# Altium schematic symbol library Dart_Controller_Schlib.SchLib: 41 symbols
Pins are listed as number, name and electrical type; pins without a type are passive.

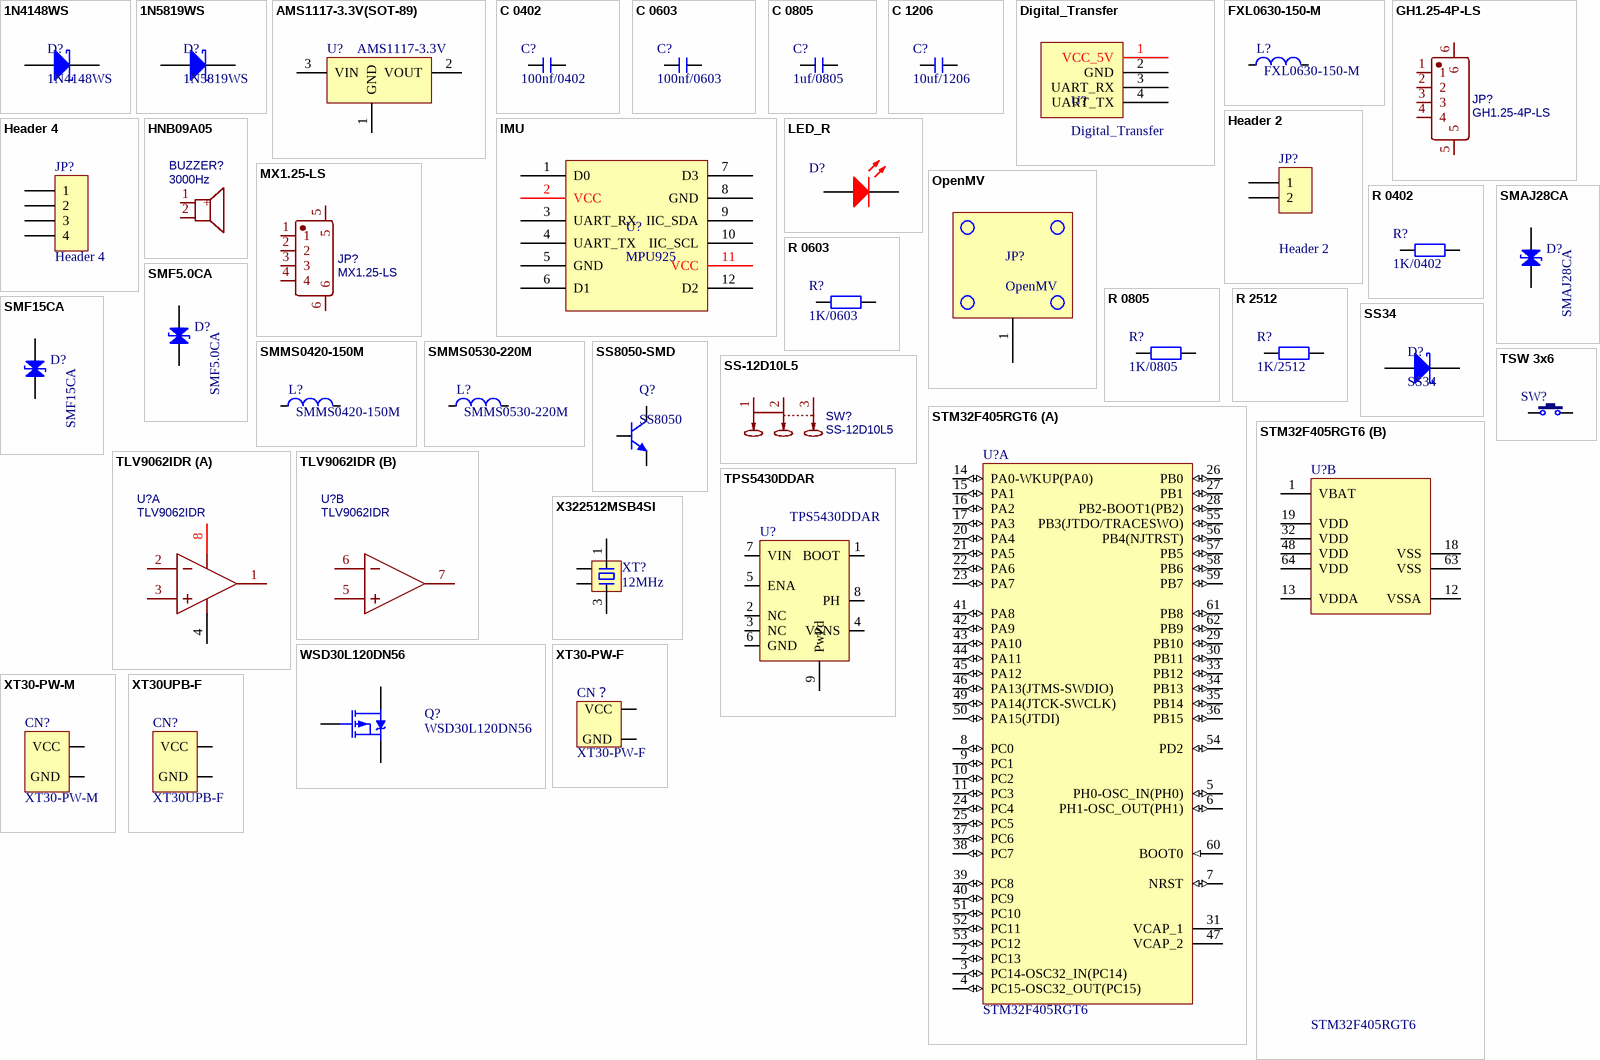
[diagram p0: symbols 1N4148WS to XT30UPB-F]

## 1N4148WS
designator D?
开关二极管; BOM名称: 肖特基二极管; 学习资源: https://shop463601444.taobao.com
footprint SOD-323_L1.8-W1.3-LS2.5-RD
pins: 1 A, 2 K

## 1N5819WS
designator D?
肖特基二极管; BOM名称: 肖特基二极管; 学习资源: https://shop463601444.taobao.com
footprint SOD-323_L1.8-W1.3-LS2.5-RD
pins: 1 A, 2 K

## AMS1117-3.3V(SOT-89)
designator U?, comment AMS1117-3.3V
LDO; BOM名称: 稳压芯片; 淘宝ID: 封装库来自淘宝 ID：黄晶宝石; 欢迎光临淘宝店铺: https://shop463601444.taobao.com
footprint SOT-89 (封装库来自淘宝卖家 ID：黄晶宝石)
pins: 1 GND, 2 VOUT, 3 VIN

## C 0402
designator C?, comment 100nf/0402
贴片电容; BOM名称: 无极性贴片电容; 淘宝ID: 封装库来自淘宝 ID：黄晶宝石; 联系售后: https://shop463601444.taobao.com
footprint C 0402_M (无极性贴片电容                                  淘宝ID:黄晶宝石)
pins: 1, 2

## C 0603
designator C?, comment 100nf/0603
贴片电容; BOM名称: 无极性贴片电容; 淘宝ID: 封装库来自淘宝 ID：黄晶宝石; 联系售后: https://shop463601444.taobao.com
footprint C 0603_M (无极性贴片电容                                淘宝ID:黄晶宝石)
pins: 1, 2

## C 0805
designator C?, comment 1uf/0805
贴片电容; BOM名称: 无极性贴片电容; 淘宝ID: 封装库来自淘宝 ID：黄晶宝石; 联系售后: https://shop463601444.taobao.com
footprint C 0805_M (无极性贴片电容                                         淘宝ID:黄晶宝石)
pins: 1, 2

## C 1206
designator C?, comment 10uf/1206
贴片电容; BOM名称: 无极性贴片电容; 淘宝ID: 封装库来自淘宝 ID：黄晶宝石; 联系售后: https://shop463601444.taobao.com
footprint C 1206_M (无极性贴片电容)
pins: 1, 2

## Digital_Transfer
designator U?
数传
footprint Digital_Transfer
pins: 1 VCC_5V, 2 GND, 3 UART_RX, 4 UART_TX

## FXL0630-150-M
designator L?
功率电感
footprint L-SMD-0630 (一体化成型电感)
pins: 1, 2

## GH1.25-4P-LS
designator JP?
Manufacturer: XUNPU(讯普); Manufacturer Part: WAFER-GH1.25-4PLB; Contributor: lcsc; Supplier: LCSC; Supplier Part: C3029370; JLCPCB Part Class: Extended Part; spicePre: U; spiceSymbolName: WAFER-GH1.25-4PLB
footprint GH1.25-LS-4P (A1257WR-S-4P)
pins: 1, 2, 3, 4, 5, 6

## Header 2
designator JP?
Header, 2-Pin; LatestRevisionDate: 17-Jul-2002; LatestRevisionNote: Re-released for DXP Platform.; Publisher: Altium Limited
footprint HDR2.54-LI-2P (封装库来自淘宝卖家 ID：黄晶宝石)
pins: 1, 2

## Header 4
designator JP?
Header, 4-Pin; LatestRevisionDate: 17-Jul-2002; LatestRevisionNote: Re-released for DXP Platform.; Publisher: Altium Limited
footprint HDR2.54-LI-4P (排针，4脚)
pins: 1, 2, 3, 4

## HNB09A05
designator BUZZER?, comment 3000Hz
蜂鸣器; Manufacturer: 华能; Manufacturer Part: HNB09A05; nameAlias: Value; Supplier: LCSC; Supplier Part: C96493; JLCPCB Part Class: Extended Part; spicePre: B; spiceSymbolName: HNB09A05
footprint BUZ-TH_BD9.6-P5.00-D0.7-FD
pins: 1 +, 2

## IMU
designator U?, comment MPU925
footprint JY901B_MPU9250
pins: 1 D0, 2 VCC, 3 UART_RX, 4 UART_TX, 5 GND, 6 D1, 7 D3, 8 GND, 9 IIC_SDA, 10 IIC_SCL, 11 VCC, 12 D2

## LED_R
designator D?, comment LED  (value not drawn)
发光二极管; Published: 8-Jun-2000; LatestRevisionDate: 08-Jul-2005; LatestRevisionNote: Mech Layer 1 removed.; PackageReference: LED-0; Publisher: Altium Limited
footprint LED0603-RD_RED
pins: 1 K, 2 A

## MX1.25-LS
designator JP?
Manufacturer: HCTL(华灿天禄); Manufacturer Part: HC-1.25-4PLT; Contributor: LCSC; Supplier: LCSC; Supplier Part: C2845390; JLCPCB Part Class: Extended Part; spicePre: C; spiceSymbolName: HC-1.25-4PLT
footprint MX 1.25-LS-4P (长：9.75m，宽：3.7mm，高：4.7mm)
pins: 1, 2, 3, 4, 5, 6

## OpenMV
designator JP?
OpenMV定位孔
footprint OpenMV_Hole
pins: 1

## R 0402
designator R?, comment 1K/0402
贴片电阻; 版权归属: 来自淘宝 ID：黄晶宝石; BOM名称: 贴片电阻; 联系售后: https://shop463601444.taobao.com
footprint R 0402_M (1/16W贴片电阻       淘宝ID:黄晶宝石)
pins: 1, 2

## R 0603
designator R?, comment 1K/0603
贴片电阻; 版权归属: 来自淘宝 ID：黄晶宝石; BOM名称: 贴片电阻; 联系售后: https://shop463601444.taobao.com
footprint R 0603_M (1/10W贴片电阻)
pins: 1, 2

## R 0805
designator R?, comment 1K/0805
贴片电阻; 版权归属: 来自淘宝 ID：黄晶宝石; BOM名称: 贴片电阻; 联系售后: https://shop463601444.taobao.com
footprint R 0805_M (1/8W贴片电阻)
pins: 1, 2

## R 2512
designator R?, comment 1K/2512
贴片电阻; 版权归属: 来自淘宝 ID：黄晶宝石; BOM名称: 贴片电阻; 联系售后: https://shop463601444.taobao.com
footprint R 2512_M (1W贴片电阻  淘宝ID:黄晶宝石)
pins: 1, 2

## SMAJ28CA
designator D?
双向瞬态电压抑制二极管
footprint SMA (4.5x2.6*2.2mm（长宽高，不包括引脚）)
pins: 1, 2

## SMF5.0CA
designator D?
双向瞬态电压抑制二极管
footprint SOD-123FL_L2.8-W1.8-LS3.7-BI
pins: 1, 2

## SMF15CA
designator D?
双向瞬态电压抑制二极管
footprint SOD-123FL_L2.8-W1.8-LS3.7-BI
pins: 1, 2

## SMMS0420-150M
designator L?
功率电感
footprint IND-SMD_L4.6-W4.2_SMMS0420
pins: 1, 2

## SMMS0530-220M
designator L?
功率电感
footprint IND-SMD_L5.5-W5.2
pins: 1, 2

## SS34
designator D?
肖特基二极管; BOM名称: 肖特基二极管; 学习资源: https://shop463601444.taobao.com
footprint SMA (4.5x2.6*2.2mm（长宽高，不包括引脚）)
pins: 1 A, 2 K

## SS8050-SMD
designator Q?, comment SS8050
高频放大-NPN型; 版权归属: 封装库来自淘宝 ID：黄晶宝石; 属性: 40V 1.5A 1W 100MHZ; BOM名称: 高频放大-NPN型; 联系售后: https://shop463601444.taobao.com
footprint SOT23-3L (3x1.3x1mm(长宽高))
pins: 1 B, 2 E, 3 C

## SS-12D10L5
designator SW?
滑动开关; Manufacturer: XKB Connectivity(中国星坤); Contributor: LCSC; Supplier: LCSC; Supplier Part: C319012; Manufacturer Part: SS-12D10L5; spicePre: S; spiceSymbolName: SS-12D10L5
footprint SW-TH_SS-12D10L5
pins: 1, 2, 3

## STM32F405RGT6
designator U?
ARM Cortex-M4 32-bit MCU+FPU, 210 DMIPS, 1024 kB Flash, 192 kB Internal RAM, 51 I/Os, 64-pin LQFP, -40 to 85 degC, Tray; Manufacturer: STMicroelectronics; D/A Converter: 2x12-bit; FLASH Size (Prog) (kB): 1024; I/Os (High Current): 51; Internal RAM Size (kB): 192; Operating Frequency(F) (Processor speed) (MHz): 168; Supply Voltage(Vcc) max (V): 3.6; Supply Voltage(Vcc) min (V): 1.8; DatasheetVersion: Rev. 4; PackageVersion: Rev. 4, 06/2013; PackageReference: LQFP64; PackageDescription: 64-Pin Low Profile Quad Flat Package, 10 x 10 mm Body, 0.5 mm Pitch; Supplier 1: Digi-Key; Supplier Part Number 1: 497-11767-ND; Supplier 2: Farnell; Supplier Part Number 2: 2064363; Supplier 3: Newark; Supplier Part Number 3: 73T2329; Supplier 4: Mouser; Supplier Part Number 4: 511-STM32F405RGT6; Core: ARM Cortex-M4; Packing: Tray; Mounting Technology: Surface Mount; PartNumber: STM32F405RGT6; ComponentLink1Description: Manufacturer URL; ComponentLink1URL: http://www.st.com/web/en/home.html; ComponentLink2Description: Datasheet; ComponentLink2URL: http://www.st.com/st-web-ui/static/active/en/resource/technical/document/datasheet/DM00037051.pdf; ComponentLink3Description: Package Specification; ComponentLink3URL: http://www.st.com/st-web-ui/static/active/en/resource/technical/document/datasheet/DM00037051.pdf
footprint LQFP64 10x10_N (64脚，体宽10x10mm，脚距0.5mm)
part A pins: 2 PC13 (io) "PC13/EVENTOUT/RTC_OUT,RTC_TAMP1,RTC_TS", 3 PC14-OSC32_IN(PC14) (io) "PC14-OSC32_IN(PC14)/EVENTOUT/OSC32_IN", 4 PC15-OSC32_OUT(PC15) (io) "PC15-OSC32_OUT(PC15)/EVENTOUT/OSC32_OUT", 5 PH0-OSC_IN(PH0) (io) "PH0-OSC_IN(PH0)/EVENTOUT/OSC_IN", 6 PH1-OSC_OUT(PH1) (io) "PH1-OSC_OUT(PH1)/EVENTOUT/OSC_OUT", 7 NRST (io), 8 PC0 (io) "PC0/OTG_HS_ULPI_STP/EVENTOUT/ADC123_IN10", 9 PC1 (io) "PC1/ETH_MDC/EVENTOUT/ADC123_IN11", 10 PC2 (io) "PC2/SPI2_MISO/OTG_HS_ULPI_DIR/ETH_MII_TXD2/I2S2ext_SD/EVENTOUT/ADC123_IN12", 11 PC3 (io) "PC3/SPI2_MOSI/I2S2_SD/OTG_HS_ULPI_NXT/ETH_MII_TX_CLK/EVENTOUT/ADC123_IN13", 14 PA0-WKUP(PA0) (io) "PA0-WKUP(PA0)/USART2_CTS/UART4_TX/ETH_MII_CRS/TIM2_CH1_ETR/TIM5_CH1/TIM8_ETR/EVENTOUT/ADC123_IN0/WKUP", 15 PA1 (io) "PA1/USART2_RTS/UART4_RX/ETH_RMII_REF_CLK/ETH_MII_RX_CLK/TIM5_CH2/TIM2_CH2/EVENTOUT/ADC123_IN1", 16 PA2 (io) "PA2/USART2_TX/TIM5_CH3/TIM9_CH1/TIM2_CH3/ETH_MDIO/EVENTOUT/ADC123_IN2", 17 PA3 (io) "PA3/USART2_RX/TIM5_CH4/TIM9_CH2/TIM2_CH4/OTG_HS_ULPI_D0/ETH_MII_COL/EVENTOUT/ADC123_IN3", 20 PA4 (io) "PA4/SPI1_NSS/SPI3_NSS/USART2_CK/DCMI_HSYNC/OTG_HS_SOF/I2S3_WS/EVENTOUT/ADC12_IN4/DAC_OUT1", 21 PA5 (io) "PA5/SPI1_SCK/OTG_HS_ULPI_CK/TIM2_CH1_ETR/TIM8_CH1N/EVENTOUT/ADC12_IN5/DAC_OUT2", 22 PA6 (io) "PA6/SPI1_MISO/TIM8_BKIN/TIM13_CH1/DCMI_PIXCLK/TIM3_CH1/TIM1_BKIN/EVENTOUT/ADC12_IN6", 23 PA7 (io) "PA7/SPI1_MOSI/TIM8_CH1N/TIM14_CH1/TIM3_CH2/ETH_MII_RX_DV/TIM1_CH1N/ETH_RMII_CRS_DV/EVENTOUT/ADC12_IN7", 24 PC4 (io) "PC4/ETH_RMII_RX_D0/ETH_MII_RX_D0/EVENTOUT/ADC12_IN14", 25 PC5 (io) "PC5/ETH_RMII_RX_D1/ETH_MII_RX_D1/EVENTOUT/ADC12_IN15", 26 PB0 (io) "PB0/TIM3_CH3/TIM8_CH2N/OTG_HS_ULPI_D1/ETH_MII_RXD2/TIM1_CH2N/EVENTOUT/ADC12_IN8", 27 PB1 (io) "PB1/TIM3_CH4/TIM8_CH3N/OTG_HS_ULPI_D2/ETH_MII_RXD3/TIM1_CH3N/EVENTOUT/ADC12_IN9", 28 PB2-BOOT1(PB2) (io) "PB2-BOOT1(PB2)/EVENTOUT", 29 PB10 (io) "PB10/SPI2_SCK/I2S2_CK/I2C2_SCL/USART3_TX/OTG_HS_ULPI_D3/ETH_MII_RX_ER/TIM2_CH3/EVENTOUT", 30 PB11 (io) "PB11/I2C2_SDA/USART3_RX/OTG_HS_ULPI_D4/ETH_RMII_TX_EN/ETH_MII_TX_EN/TIM2_CH4/EVENTOUT", 31 VCAP_1 (power), 33 PB12 (io) "PB12/SPI2_NSS/I2S2_WS/I2C2_SMBA/USART3_CK/TIM1_BKIN/CAN2_RX/OTG_HS_ULPI_D5/ETH_RMII_TXD0/ETH_MII_TXD0/OTG_HS_ID/EVENTOUT", 34 PB13 (io) "PB13/SPI2_SCK/I2S2_CK/USART3_CTS/TIM1_CH1N/CAN2_TX/OTG_HS_ULPI_D6/ETH_RMII_TXD1/ETH_MII_TXD1/EVENTOUT/OTG_HS_VBUS", 35 PB14 (io) "PB14/SPI2_MISO/TIM1_CH2N/TIM12_CH1/OTG_HS_DM/USART3_RTS/TIM8_CH2N/I2S2ext_SD/EVENTOUT", 36 PB15 (io) "PB15/SPI2_MOSI/I2S2_SD/TIM1_CH3N/TIM8_CH3N/TIM12_CH2/OTG_HS_DP/EVENTOUT/RTC_REFIN", 37 PC6 (io) "PC6/I2S2_MCK/TIM8_CH1/SDIO_D6/USART6_TX/DCMI_D0/TIM3_CH1/EVENTOUT", 38 PC7 (io) "PC7/I2S3_MCK/TIM8_CH2/SDIO_D7/USART6_RX/DCMI_D1/TIM3_CH2/EVENTOUT", 39 PC8 (io) "PC8/TIM8_CH3/SDIO_D0/TIM3_CH3/USART6_CK/DCMI_D2/EVENTOUT", 40 PC9 (io) "PC9/I2S_CKIN/MCO2/TIM8_CH4/SDIO_D1/I2C3_SDA/DCMI_D3/TIM3_CH4/EVENTOUT", 41 PA8 (io) "PA8/MCO1/USART1_CK/TIM1_CH1/I2C3_SCL/OTG_FS_SOF/EVENTOUT", 42 PA9 (io) "PA9/USART1_TX/TIM1_CH2/I2C3_SMBA/DCMI_D0/EVENTOUT/OTG_FS_VBUS", 43 PA10 (io) "PA10/USART1_RX/TIM1_CH3/OTG_FS_ID/DCMI_D1/EVENTOUT", 44 PA11 (io) "PA11/USART1_CTS/CAN1_RX/TIM1_CH4/OTG_FS_DM/EVENTOUT", 45 PA12 (io) "PA12/USART1_RTS/CAN1_TX/TIM1_ETR/OTG_FS_DP/EVENTOUT", 46 PA13(JTMS-SWDIO) (io) "PA13(JTMS-SWDIO)/JTMS-SWDIO/EVENTOUT", 47 VCAP_2 (power), 49 PA14(JTCK-SWCLK) (io) "PA14(JTCK-SWCLK)/JTCK-SWCLK/EVENTOUT", 50 PA15(JTDI) (io) "PA15(JTDI)/JTDI/SPI3_NSS/I2S3_WS/TIM2_CH1_ETR/SPI1_NSS/EVENTOUT", 51 PC10 (io) "PC10/SPI3_SCK/I2S3_CK/UART4_TX/SDIO_D2/DCMI_D8/USART3_TX/EVENTOUT", 52 PC11 (io) "PC11/UART4_RX/SPI3_MISO/SDIO_D3/DCMI_D4/USART3_RX/I2S3ext_SD/EVENTOUT", 53 PC12 (io) "PC12/UART5_TX/SDIO_CK/DCMI_D9/SPI3_MOSI/I2S3_SD/USART3_CK/EVENTOUT", 54 PD2 (io) "PD2/TIM3_ETR/UART5_RX/SDIO_CMD/DCMI_D11/EVENTOUT", 55 PB3(JTDO/TRACESWO) (io) "PB3(JTDO/TRACESWO)/JTDO/TRACESWO/SPI3_SCK/I2S3_CK/TIM2_CH2/SPI1_SCK/EVENTOUT", 56 PB4(NJTRST) (io) "PB4(NJTRST)/NJTRST/SPI3_MISO/TIM3_CH1/SPI1_MISO/I2S3ext_SD/EVENTOUT", 57 PB5 (io) "PB5/I2C1_SMBA/CAN2_RX/OTG_HS_ULPI_D7/ETH_PPS_OUT/TIM3_CH2/SPI1_MOSI/SPI3_MOSI/DCMI_D10/I2S3_SD/EVENTOUT", 58 PB6 (io) "PB6/I2C1_SCL/TIM4_CH1/CAN2_TX/DCMI_D5/USART1_TX/EVENTOUT", 59 PB7 (io) "PB7/I2C1_SDA/FSMC_NL/DCMI_VSYNC/USART1_RX/TIM4_CH2/EVENTOUT", 60 BOOT0 (in) "BOOT0/VPP", 61 PB8 (io) "PB8/TIM4_CH3/SDIO_D4/TIM10_CH1/DCMI_D6/ETH_MII_TXD3/I2C1_SCL/CAN1_RX/EVENTOUT", 62 PB9 (io) "PB9/SPI2_NSS/I2S2_WS/TIM4_CH4/TIM11_CH1/SDIO_D5/DCMI_D7/I2C1_SDA/CAN1_TX/EVENTOUT"
part B pins: 1 VBAT (power), 12 VSSA (power), 13 VDDA (power), 18 VSS (power), 19 VDD (power), 32 VDD (power), 48 VDD (power), 63 VSS (power), 64 VDD (power)

## TLV9062IDR
designator U?
运算放大器; Manufacturer: TI(德州仪器); Manufacturer Part: OPA365AIDBVR; Contributor: LCSC; Supplier: LCSC; Supplier Part: C96626; JLCPCB Part Class: Extended Part; spicePre: U; spiceSymbolName: OPA365AIDBVR
footprint SOP8_N
part A pins: 1 OUT, 2 IN-, 3 IN+, 4 VS-, 8 VS+
part B pins: 5 IN+, 6 IN-, 7 OUT

## TPS5430DDAR
designator U?
降压芯片
footprint ESOP8
pins: 1 BOOT, 2 NC, 3 NC, 4 VSNS, 5 ENA, 6 GND, 7 VIN, 8 PH, 9 PwPd "1"

## TSW 3x6
designator SW?, comment 3x6x5  (value not drawn)
3x6轻触开关; 版权归属: 封装库来自淘宝 ID：黄晶宝石; BOM名称: 3x6轻触开关; 学习资源: www.ooocke.com
footprint TSW SMD-3*6*2.5 (3*6*2.5mm)
pins: 1, 2

## WSD30L120DN56
designator Q?
P沟道场效应管
footprint POWERVDFN-8_L6.0-W5.0-P1.27-BL
pins: D, G, S

## X322512MSB4SI
designator XT?, comment 12MHz
无源晶振/外接20pf负载电容
footprint XTAL_3225_4P (3.2*2.5*0.7mm(长宽高))
pins: 1, 2, 3, 4

## XT30-PW-F
designator CN？
母头（卧式）
footprint XT30PW-F
pins: 1 VCC, 2 GND

## XT30-PW-M
designator CN?
公头(立式）
footprint XT30PW-M
pins: 1 VCC, 2 GND

## XT30UPB-F
designator CN?
母头(立式)
footprint XT30UPB-F
pins: 1 VCC, 2 GND

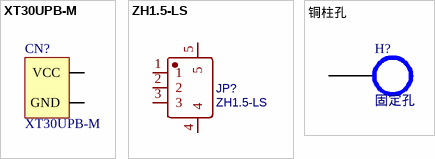
[diagram p1: symbols XT30UPB-M to 铜柱孔]

## XT30UPB-M
designator CN?
公头(立式)
footprint XT30UPB-M
pins: 1 VCC, 2 GND

## ZH1.5-LS
designator JP?
Manufacturer: HCTL(华灿天禄); Manufacturer Part: HC-ZH-3PLT; Contributor: LCSC; Supplier: LCSC; Supplier Part: C2845434; JLCPCB Part Class: Extended Part; spicePre: C; spiceSymbolName: HC-ZH-3PLT
footprint ZH1.5
pins: 1, 2, 3, 4, 5

## 铜柱孔
designator H?, comment 固定孔
footprint 铜柱孔
pins: 1 11